# EAGLE library part SGM8054 (library SGM80xx)
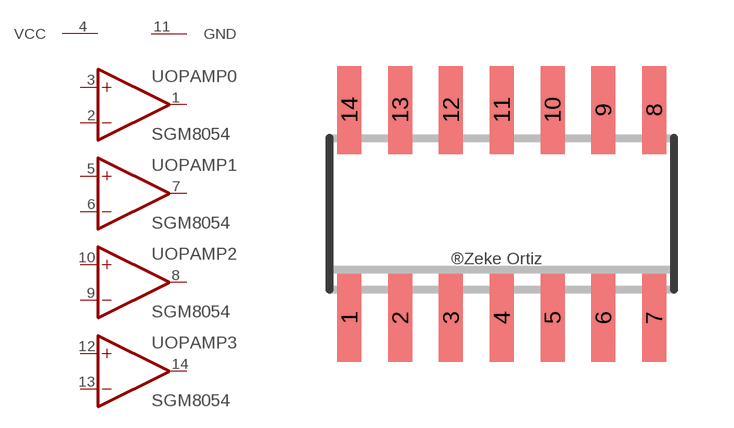
[diagram p1: symbol with the pads of SO14; footprint SO14]

Designator prefix -; gates OPAMP0=OPAMP OPAMP1=OPAMP OPAMP2=OPAMP OPAMP3=OPAMP G$1=PWRN

## SGM8054  [SO14]
1  OPAMP0:OUT  out
2  OPAMP0:-IN  in
3  OPAMP0:+IN  in
4  G$1:VCC  in
5  OPAMP1:+IN  in
6  OPAMP1:-IN  in
7  OPAMP1:OUT  out
8  OPAMP2:OUT  out
9  OPAMP2:-IN  in
10  OPAMP2:+IN  in
11  G$1:GND  out
12  OPAMP3:+IN  in
13  OPAMP3:-IN  in
14  OPAMP3:OUT  out

## Footprint SO14 (pad centres in mm)
14-Lead Narrow-Body SOIC (SO-14) Source: http://www.analog.com/static/imported-files/data_sheets/SSM2166.pdf
smd 0.6 x 2.2: 1 -3.81,-2.6; 2 -2.54,-2.6; 3 -1.27,-2.6; 4 0,-2.6; 5 1.27,-2.6; 6 2.54,-2.6; 7 3.81,-2.6; 8 3.81,2.6; 9 2.54,2.6; 10 1.27,2.6; 11 0,2.6; 12 -1.27,2.6; 13 -2.54,2.6; 14 -3.81,2.6